# Altium footprint library MKP1848C52080JK2.PcbLib: 1 footprints
Each footprint in its own frame and in the unit in brackets; x right, y up, seen from the top. Pads: shape width x height; smd on the part's side, far side on the other; paste and mask are expansions set on the pad; w line width, h text height; cw(c..) or ccw(c..) is an arc to the next point about the centre after c.
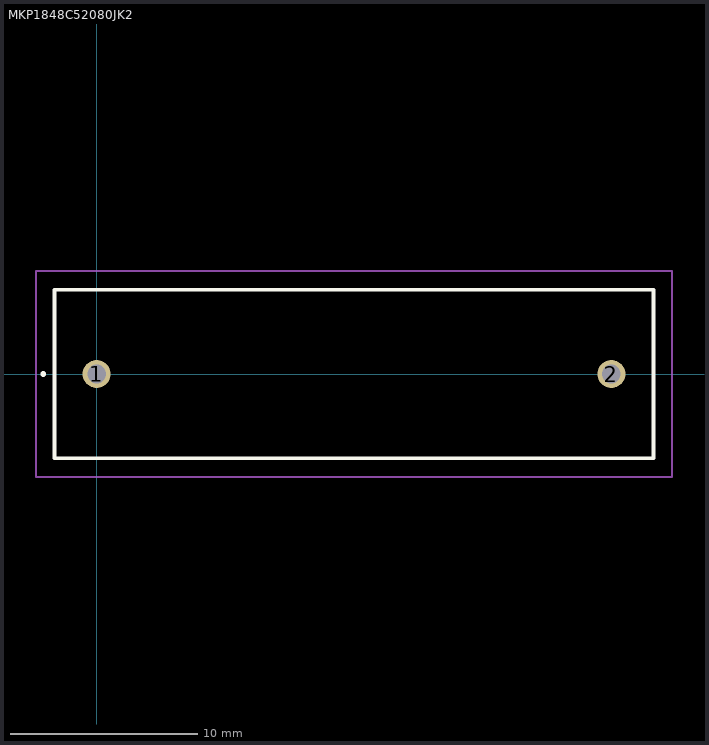
[diagram p0: the footprint, top view; thin cyan lines are the x and y axes]

## MKP1848C52080JK2 [mm]
pads (2):
  round 1.5 hole 1: 1(0,0) 2(27.5,0)
Top Overlay:
  lines w0.2: -2.9,0 -2.9,0 ; -2.9,0 ccw(c-2.85,0) -2.8,0 ; -2.9,0 cw(c-2.85,0) -2.8,0 ; -2.9,0 -2.9,0 ; -2.9,0 ccw(c-2.85,0) -2.8,0 ; -2.8,0 -2.8,0 ; -2.25,-4.5 29.75,-4.5 29.75,4.5 -2.25,4.5 -2.25,-4.5
Mechanical 15:
  lines w0.1: -2.25,-4.5 29.75,-4.5 29.75,4.5 -2.25,4.5 -2.25,-4.5
Mechanical 20:
  lines w0.1: -3.25,-5.5 30.75,-5.5 30.75,5.5 -3.25,5.5 -3.25,-5.5